# Altium footprint library TimerSwitch.PcbLib: 23 footprints (part 2 of 2)
Each footprint in its own frame and in the unit in brackets; x right, y up, seen from the top. Pads: shape width x height; smd on the part's side, far side on the other; paste and mask are expansions set on the pad; w line width, h text height; cw(c..) or ccw(c..) is an arc to the next point about the centre after c.
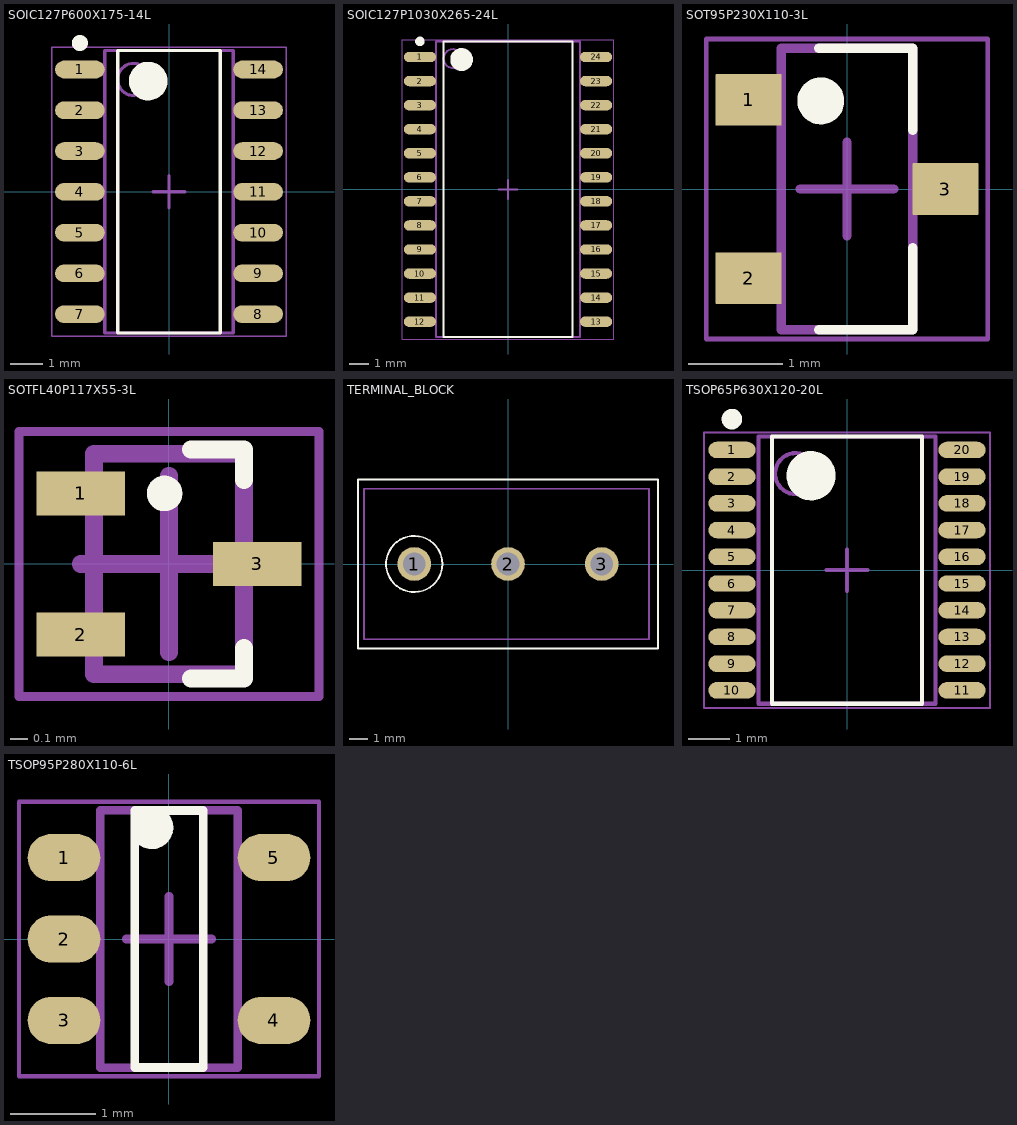
[diagram p1: the footprints below, top view; thin cyan lines are the x and y axes]

## SOIC127P600X175-14L [mm] "SOIC, 14-Leads, Body 8.65x3.90mm, Pitch 1.27mm, IPC High Density"
height 1.75
pads (14):
  oval 1.55x0.55 smd: 1(-2.775,3.81) 2(-2.775,2.54) 3(-2.775,1.27) 4(-2.775,0) 5(-2.775,-1.27) 6(-2.775,-2.54) 7(-2.775,-3.81) 8(2.775,-3.81) 9(2.775,-2.54) 10(2.775,-1.27) 11(2.775,0) 12(2.775,1.27) 13(2.775,2.54) 14(2.775,3.81)
Top Overlay:
  circle w0.6: c-0.649,3.449 r0.3
  circle w0.25: c-2.775,4.635 r0.125
  lines w0.102: -1.6,-4.4 1.6,-4.4 1.6,4.4 -1.6,4.4 -1.6,-4.4
Mechanical 13:
  circle w0.1: c-1.1,3.5 r0.5
  lines w0.1: -2,-4.4 2,-4.4 2,4.4 -2,4.4 -2,-4.4
Mechanical 15:
  lines w0.05: -3.65,-4.5 3.65,-4.5 3.65,4.5 -3.65,4.5 -3.65,-4.5
  lines w0.1: -0.5,0 0.5,0 ; 0,-0.5 0,0.5
3D body "SOIC127P600X175-14L.step": height 1.75, standoff 0, extent -3,-4.4 3,4.4

## SOIC127P1030X265-24L [mm] "SOIC, 24-Leads, Body 15.40x7.50mm, Pitch 1.27mm, IPC High Density"
height 2.65
pads (24):
  oval 1.7x0.55 smd: 1(-4.65,6.985) 2(-4.65,5.715) 3(-4.65,4.445) 4(-4.65,3.175) 5(-4.65,1.905) 6(-4.65,0.635) 7(-4.65,-0.635) 8(-4.65,-1.905) 9(-4.65,-3.175) 10(-4.65,-4.445) 11(-4.65,-5.715) 12(-4.65,-6.985) 13(4.65,-6.985) 14(4.65,-5.715) 15(4.65,-4.445) 16(4.65,-3.175) 17(4.65,-1.905) 18(4.65,-0.635) 19(4.65,0.635) 20(4.65,1.905) 21(4.65,3.175) 22(4.65,4.445) 23(4.65,5.715) 24(4.65,6.985)
Top Overlay:
  circle w0.6: c-2.449,6.849 r0.3
  circle w0.25: c-4.65,7.81 r0.125
  lines w0.102: -3.4,-7.8 3.4,-7.8 3.4,7.8 -3.4,7.8 -3.4,-7.8
Mechanical 13:
  circle w0.1: c-2.9,6.9 r0.5
  lines w0.1: -3.8,-7.8 3.8,-7.8 3.8,7.8 -3.8,7.8 -3.8,-7.8
Mechanical 15:
  lines w0.05: -5.575,-7.9 5.575,-7.9 5.575,7.9 -5.575,7.9 -5.575,-7.9
  lines w0.1: -0.5,0 0.5,0 ; 0,-0.5 0,0.5
3D body "SOIC127P1030X265-24L.step": height 2.65, standoff 0, extent -5.162,-7.8 5.162,7.8

## SOT95P230X110-3L [mm] "SOT23, 3-Leads, Body 2.90x2.30mm, Pitch 0.95mm, IPC High Density"
height 1.1
pads (3):
  rrect1% 0.7x0.55 smd: 1(-1.05,0.95) 2(-1.05,-0.95) 3(1.05,0)
Top Overlay:
  circle w0.25: c-0.279,0.94 r0.125
  lines w0.102: -0.3,-1.5 0.7,-1.5 0.7,-0.626 ; -0.3,1.5 0.7,1.5 0.7,0.626
Mechanical 13:
  lines w0.1: -0.7,-1.5 -0.7,1.5 0.7,1.5 0.7,-1.5 -0.7,-1.5
Mechanical 15:
  lines w0.05: -1.5,-1.6 -1.5,1.6 1.5,1.6 1.5,-1.6 -1.5,-1.6
  lines w0.1: -0.5,0 0.5,0 ; 0,-0.5 0,0.5
3D body "SOT95P230X110-3L.step": height 1.1, standoff 0, extent -1.3,-1.5 1.3,1.5

## SOTFL40P117X55-3L [mm] "SOTFL, 3-Leads, Body 1.20x1.17mm, Pitch 0.40mm, IPC High Density"
height 0.55
pads (3):
  rrect1% 0.5x0.25 smd: 1(-0.5,0.4) 2(-0.5,-0.4) 3(0.5,0)
Top Overlay:
  circle w0.102: c-0.025,0.4 r0.05
  lines w0.102: 0.125,-0.65 0.425,-0.65 0.425,-0.476 ; 0.125,0.65 0.425,0.65 0.425,0.476
Mechanical 13:
  lines w0.1: -0.425,-0.625 0.425,-0.625 0.425,0.625 -0.425,0.625 -0.425,-0.625
Mechanical 15:
  lines w0.05: -0.85,-0.75 0.85,-0.75 0.85,0.75 -0.85,0.75 -0.85,-0.75
  lines w0.1: -0.5,0 0.5,0 ; 0,-0.5 0,0.5
3D body "SOTFL40P117X55-3L.step": height 0.55, standoff 0, extent -0.587,-0.623 0.587,0.623

## TERMINAL_BLOCK [mm] "3 Way 5mm screw terminal block"
height 10
pads (3):
  round 1.8 hole 1.2: 1(-5,0) 2(0,0) 3(5,0)
Top Overlay:
  circle w0.102: c-5,0 r1.5
  lines w0.102: -8,-4.5 8,-4.5 8,4.5 -8,4.5 -8,-4.5
Mechanical 15:
  lines w0.102: -7.671,-4.013 -7.671,4.013 7.518,4.013 7.518,-4.013 -7.671,-4.013
3D body "Screw Terminal Block 5mm 3-way.step": height 10, standoff -2, extent -7.65,-4 7.5,4

## TSOP65P630X120-20L [mm] "TSOP, 20-Leads, Body 6.45x4.30mm, Pitch 0.65mm, IPC High Density"
height 1.2
pads (20):
  oval 1.15x0.4 smd: 1(-2.8,2.925) 2(-2.8,2.275) 3(-2.8,1.625) 4(-2.8,0.975) 5(-2.8,0.325) 6(-2.8,-0.325) 7(-2.8,-0.975) 8(-2.8,-1.625) 9(-2.8,-2.275) 10(-2.8,-2.925) 11(2.8,-2.925) 12(2.8,-2.275) 13(2.8,-1.625) 14(2.8,-0.975) 15(2.8,-0.325) 16(2.8,0.325) 17(2.8,0.975) 18(2.8,1.625) 19(2.8,2.275) 20(2.8,2.925)
Top Overlay:
  circle w0.6: c-0.874,2.299 r0.3
  circle w0.25: c-2.8,3.675 r0.125
  lines w0.102: -1.825,-3.25 1.825,-3.25 1.825,3.25 -1.825,3.25 -1.825,-3.25
Mechanical 13:
  circle w0.1: c-1.25,2.35 r0.5
  lines w0.1: -2.15,-3.25 2.15,-3.25 2.15,3.25 -2.15,3.25 -2.15,-3.25
Mechanical 15:
  lines w0.05: -3.475,-3.35 3.475,-3.35 3.475,3.35 -3.475,3.35 -3.475,-3.35
  lines w0.1: -0.5,0 0.5,0 ; 0,-0.5 0,0.5
3D body "TSOP65P630X120-20L.step": height 1.2, standoff 0, extent -3.15,-3.25 3.15,3.25

## TSOP95P280X110-6L [mm] "TSOP, 6-Leads, Body 3.00x1.50mm, Pitch 0.95mm, IPC High Density"
height 1.1
pads (5):
  oval 0.85x0.55 smd: 1(-1.225,0.95) 2(-1.225,0) 3(-1.225,-0.95) 4(1.225,-0.95) 5(1.225,0.95)
Top Overlay:
  circle w0.25: c-0.2,1.3 r0.125
  lines w0.102: -0.4,-1.5 -0.4,1.5 0.4,1.5 0.4,-1.5 -0.4,-1.5
Mechanical 13:
  lines w0.1: -0.8,-1.5 -0.8,1.5 0.8,1.5 0.8,-1.5 -0.8,-1.5
Mechanical 15:
  lines w0.05: -1.75,-1.6 -1.75,1.6 1.75,1.6 1.75,-1.6 -1.75,-1.6
  lines w0.1: -0.5,0 0.5,0 ; 0,-0.5 0,0.5
3D body "TSOP95P280X110-6L.step": height 1.1, standoff 0, extent -1.375,-1.5 1.375,1.5